# Altium footprint library Filter.PcbLib: 3 footprints
Each footprint in its own frame and in the unit in brackets; x right, y up, seen from the top. Pads: shape width x height; smd on the part's side, far side on the other; paste and mask are expansions set on the pad; w line width, h text height; cw(c..) or ccw(c..) is an arc to the next point about the centre after c.
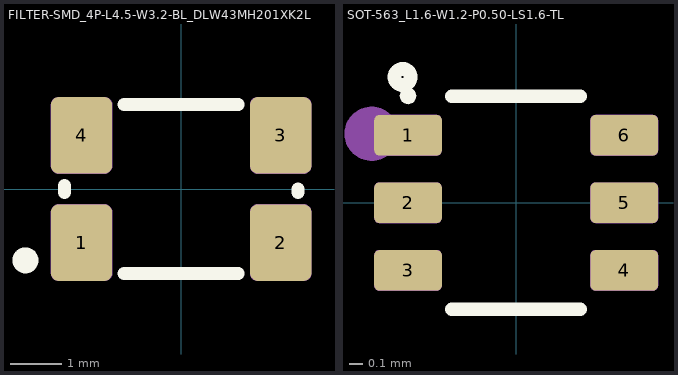
[diagram p0: the footprints below, top view; thin cyan lines are the x and y axes]

## FILTER-SMD_4P-L4.5-W3.2-BL_DLW43MH201XK2L [mm] "1812"
height -909.212
pads (4):
  rrect25% 1.2x1.5 smd mask+0.05: 1(-1.95,-1.05) 2(1.95,-1.05) 3(1.95,1.05) 4(-1.95,1.05)
Top Overlay:
  circle w0.254: c-3.048,-1.397 r0.127
  region: -2.19,-1.6 -2.191,-1.588 -2.195,-1.577 -2.2,-1.567 -2.208,-1.558 -2.217,-1.55 -2.227,-1.545 -2.238,-1.541 -2.25,-1.54 -2.262,-1.541 -2.273,-1.545 -2.283,-1.55 -2.292,-1.558 -2.3,-1.567 -2.305,-1.577 -2.309,-1.588 -2.31,-1.6 -2.309,-1.612 -2.305,-1.623 -2.3,-1.633 -2.292,-1.642 -2.283,-1.65 -2.273,-1.655 -2.262,-1.659 -2.25,-1.66 -2.238,-1.659 -2.227,-1.655 -2.217,-1.65 -2.208,-1.642 -2.2,-1.633 -2.195,-1.623 -2.191,-1.612
  lines w0.254: -2.286,-0.069 -2.286,0.069 -2.286,0 ; -1.119,-1.651 0.127,-1.651 1.119,-1.651 ; -1.119,1.651 -0.635,1.651 1.119,1.651 ; 2.286,-0.069 2.286,0
Mechanical 9:
  drawing of 4 lines, arcs and shapes, not listed
3D body "FILTER-SMD_4P-L4.5-W3.2-BL_DLW43MH201XK2L.step": height 1, standoff 0, extent -2.25,-1.6 2.25,1.6

## PCBComponent_1 [mm]

## SOT-563_L1.6-W1.2-P0.50-LS1.6-TL [mm] "SOT-563; SOT-23; -; SOT-5X3-6"
height -4909.229
pads (6):
  rrect25% 0.5x0.3 smd mask+0.05: 1(-0.8,0.5) 2(-0.8,0) 3(-0.8,-0.5) 4(0.8,-0.5) 5(0.8,0) 6(0.8,0.5)
Top Overlay:
  circle w0.102: c-0.84,0.931 r0.06
  region: -0.74,0.791 -0.741,0.803 -0.745,0.814 -0.75,0.824 -0.758,0.833 -0.767,0.841 -0.777,0.846 -0.788,0.85 -0.8,0.851 -0.812,0.85 -0.823,0.846 -0.833,0.841 -0.842,0.833 -0.85,0.824 -0.855,0.814 -0.859,0.803 -0.86,0.791 -0.859,0.779 -0.855,0.768 -0.85,0.758 -0.842,0.749 -0.833,0.741 -0.823,0.736 -0.812,0.732 -0.8,0.731 -0.788,0.732 -0.777,0.736 -0.767,0.741 -0.758,0.749 -0.75,0.758 -0.745,0.768 -0.741,0.779
  lines w0.1: -0.475,-0.786 0.475,-0.786 ; -0.475,0.788 0.475,0.788
Mechanical 2:
  circle w0.2: c-1.07,0.511 r0.1
Mechanical 9:
  drawing of 6 lines, arcs and shapes, not listed
3D body "SOT-563-6P_L1.6-W1.2-H0.6-LS1.6-P0.50.step": height 0.6, standoff 0, extent -0.6,-0.809 0.6,0.791